# EAGLE library part CSD-425 (library Disp)
LED Seven Segment Display, 2 digit, CC
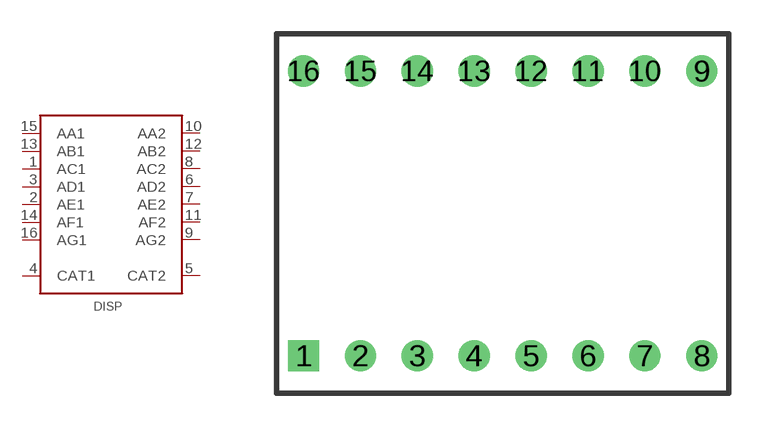
[diagram p5: symbol with the pads of CSD-42X; footprint CSD-42X]

Designator prefix DISP

## CSD-425  [CSD-42X]
1  AC1  pas
2  AE1  pas
3  AD1  pas
4  CAT1  pas
5  CAT2  pas
6  AD2  pas
7  AE2  pas
8  AC2  pas
9  AG2  pas
10  AA2  pas
11  AF2  pas
12  AB2  pas
13  AB1  pas
14  AF1  pas
15  AA1  pas
16  AG1  pas

## Footprint CSD-42X (pad centres in mm)
drill 0.889 square: 1 -8.89,-6.35
drill 0.889 round: 2 -6.35,-6.35; 3 -3.81,-6.35; 4 -1.27,-6.35; 5 1.27,-6.35; 6 3.81,-6.35; 7 6.35,-6.35; 8 8.89,-6.35; 9 8.89,6.35; 10 6.35,6.35; 11 3.81,6.35; 12 1.27,6.35; 13 -1.27,6.35; 14 -3.81,6.35; 15 -6.35,6.35; 16 -8.89,6.35